# Altium footprint library Connectors-EdgeBoard.PcbLib: 2 footprints
Each footprint in its own frame and in the unit in brackets; x right, y up, seen from the top. Pads: shape width x height; smd on the part's side, far side on the other; paste and mask are expansions set on the pad; w line width, h text height; cw(c..) or ccw(c..) is an arc to the next point about the centre after c.
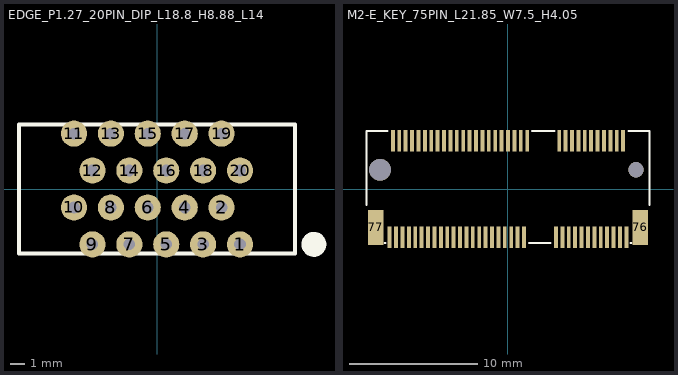
[diagram p0: the footprints below, top view; thin cyan lines are the x and y axes]

## EDGE_P1.27_20PIN_DIP_L18.8_H8.88_L14 [mm]
pads (20):
  round 1.8 hole 0.8: 1(5.715,-3.81) 2(4.445,-1.27) 3(3.175,-3.81) 4(1.905,-1.27) 5(0.635,-3.81) 6(-0.635,-1.27) 7(-1.905,-3.81) 8(-3.175,-1.27) 9(-4.445,-3.81) 10(-5.715,-1.27) 11(-5.715,3.81) 12(-4.445,1.27) 13(-3.175,3.81) 14(-1.905,1.27) 15(-0.635,3.81) 16(0.635,1.27) 17(1.905,3.81) 18(3.175,1.27) 19(4.445,3.81) 20(5.715,1.27)
Top Overlay:
  circle w1: c10.795,-3.81 r0.357
  lines w0.254: -9.5,-4.445 -9.5,4.435 9.5,4.435 9.5,-4.445 -9.5,-4.445
3D body: height 15.6, standoff 0, extent -9.5,-4.445 9.525,4.496

## M2-E_KEY_75PIN_L21.85_W7.5_H4.05 [mm]
pads (71):
  rect 0.3x1.7 smd: 1(9.25,-3.775) 2(9,3.775) 3(8.75,-3.775) 4(8.5,3.775) 5(8.25,-3.775) 6(8,3.775) 7(7.75,-3.775) 8(7.5,3.775) 9(7.25,-3.775) 10(7,3.775) 11(6.75,-3.775) 12(6.5,3.775) 13(6.25,-3.775) 14(6,3.775) 15(5.75,-3.775) 16(5.5,3.775) 17(5.25,-3.775) 18(5,3.775) 19(4.75,-3.775) 20(4.5,3.775) 21(4.25,-3.775) 22(4,3.775) 23(3.75,-3.775) 32(1.5,3.775) 33(1.25,-3.775) 34(1,3.775) 35(0.75,-3.775) 36(0.5,3.775) 37(0.25,-3.775) 38(0,3.775) 39(-0.25,-3.775) 40(-0.5,3.775) 41(-0.75,-3.775) 42(-1,3.775) 43(-1.25,-3.775) 44(-1.5,3.775) 45(-1.75,-3.775) 46(-2,3.775) 47(-2.25,-3.775) 48(-2.5,3.775) 49(-2.75,-3.775) 50(-3,3.775) 51(-3.25,-3.775) 52(-3.5,3.775) 53(-3.75,-3.775) 54(-4,3.775) 55(-4.25,-3.775) 56(-4.5,3.775) 57(-4.75,-3.775) 58(-5,3.775) 59(-5.25,-3.775) 60(-5.5,3.775) 61(-5.75,-3.775) 62(-6,3.775) 63(-6.25,-3.775) 64(-6.5,3.775) 65(-6.75,-3.775) 66(-7,3.775) 67(-7.25,-3.775) 68(-7.5,3.775) 69(-7.75,-3.775) 70(-8,3.775) 71(-8.25,-3.775) 72(-8.5,3.775) 73(-8.75,-3.775) 74(-9,3.775) 75(-9.25,-3.775)
  rect 1.2x2.75 smd: 76(10.35,-3) 77(-10.35,-3)
  round 1.7 hole 1.7: ""(-10,1.5)
  round 1.2 hole 1.2: ""(10,1.5)
Top Overlay:
  lines w0.152: -11.049,-1.27 -11.049,4.548 -9.398,4.548 ; -9.643,-4.215 -9.577,-4.215 ; 1.656,-4.217 3.328,-4.215 ; 1.884,4.531 3.619,4.546 ; 9.398,4.548 11.049,4.548 11.049,-1.27 ; 9.577,-4.215 9.643,-4.215